# Altium schematic symbol library 1734753-1.SchLib: 1 symbol
Pins are listed as number, name and electrical type; pins without a type are passive.

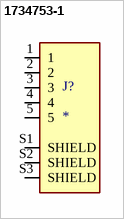
[diagram p0: symbol 1734753-1]

## 1734753-1
designator J?
Conn Mini USB 2.0 Type B RCP 5 POS 0.8mm Solder ST Thru-Hole 5 Terminal 1 Port Box/Tray; MP: 1734753-1; Number_of_Positions: 5; Product_Type: Connector; MF: TE Connectivity; Centerline_Pitch: .8 mm[.031 in]; Check_prices: https://www.snapeda.com/parts/1734753-1/TE+Connectivity+AMP+Connectors/view-part/?ref=eda; Value: *; Availability: In Stock; Price: None; Package: None; SnapEDA_Link: https://www.snapeda.com/parts/1734753-1/TE+Connectivity+AMP+Connectors/view-part/?ref=snap; Purchase-URL: https://pricing.snapeda.com/search/part/1734753-1/?ref=eda; EU_RoHS_Compliance: Compliant
footprint CONN_1734753-1
pins: 1, 2, 3, 4, 5, S1 SHIELD, S2 SHIELD, S3 SHIELD